# EAGLE library part TR113-E6335-1 (library pot)
DUAL GANG POT
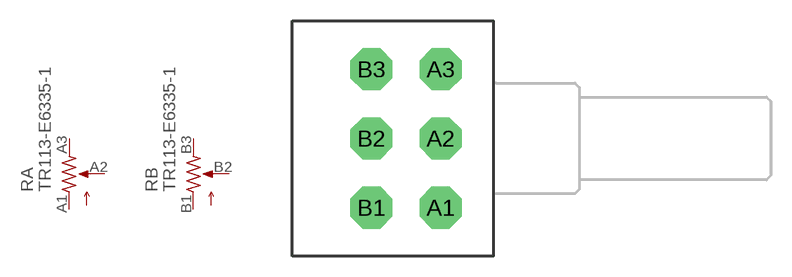
[diagram p7: symbol with the pads of TR113-E6335-1; footprint TR113-E6335-1]

Designator prefix R; gates A=POT_US- B=POT_US-

## TR113-E6335-1  [TR113-E6335-1]
A1  A:1  pas
A2  A:2  pas
A3  A:3  pas
B1  B:1  pas
B2  B:2  pas
B3  B:3  pas

## Footprint TR113-E6335-1 (pad centres in mm)
drill 1.676 pad 3.048 octagon: A1 -3.8,-5; A2 -3.8,0; A3 -3.8,5; B1 -8.8,-5; B2 -8.8,0; B3 -8.8,5